# Altium footprint library Main Board.PcbLib: 31 footprints (part 1 of 2)
Each footprint in its own frame and in the unit in brackets; x right, y up, seen from the top. Pads: shape width x height; smd on the part's side, far side on the other; paste and mask are expansions set on the pad; w line width, h text height; cw(c..) or ccw(c..) is an arc to the next point about the centre after c.
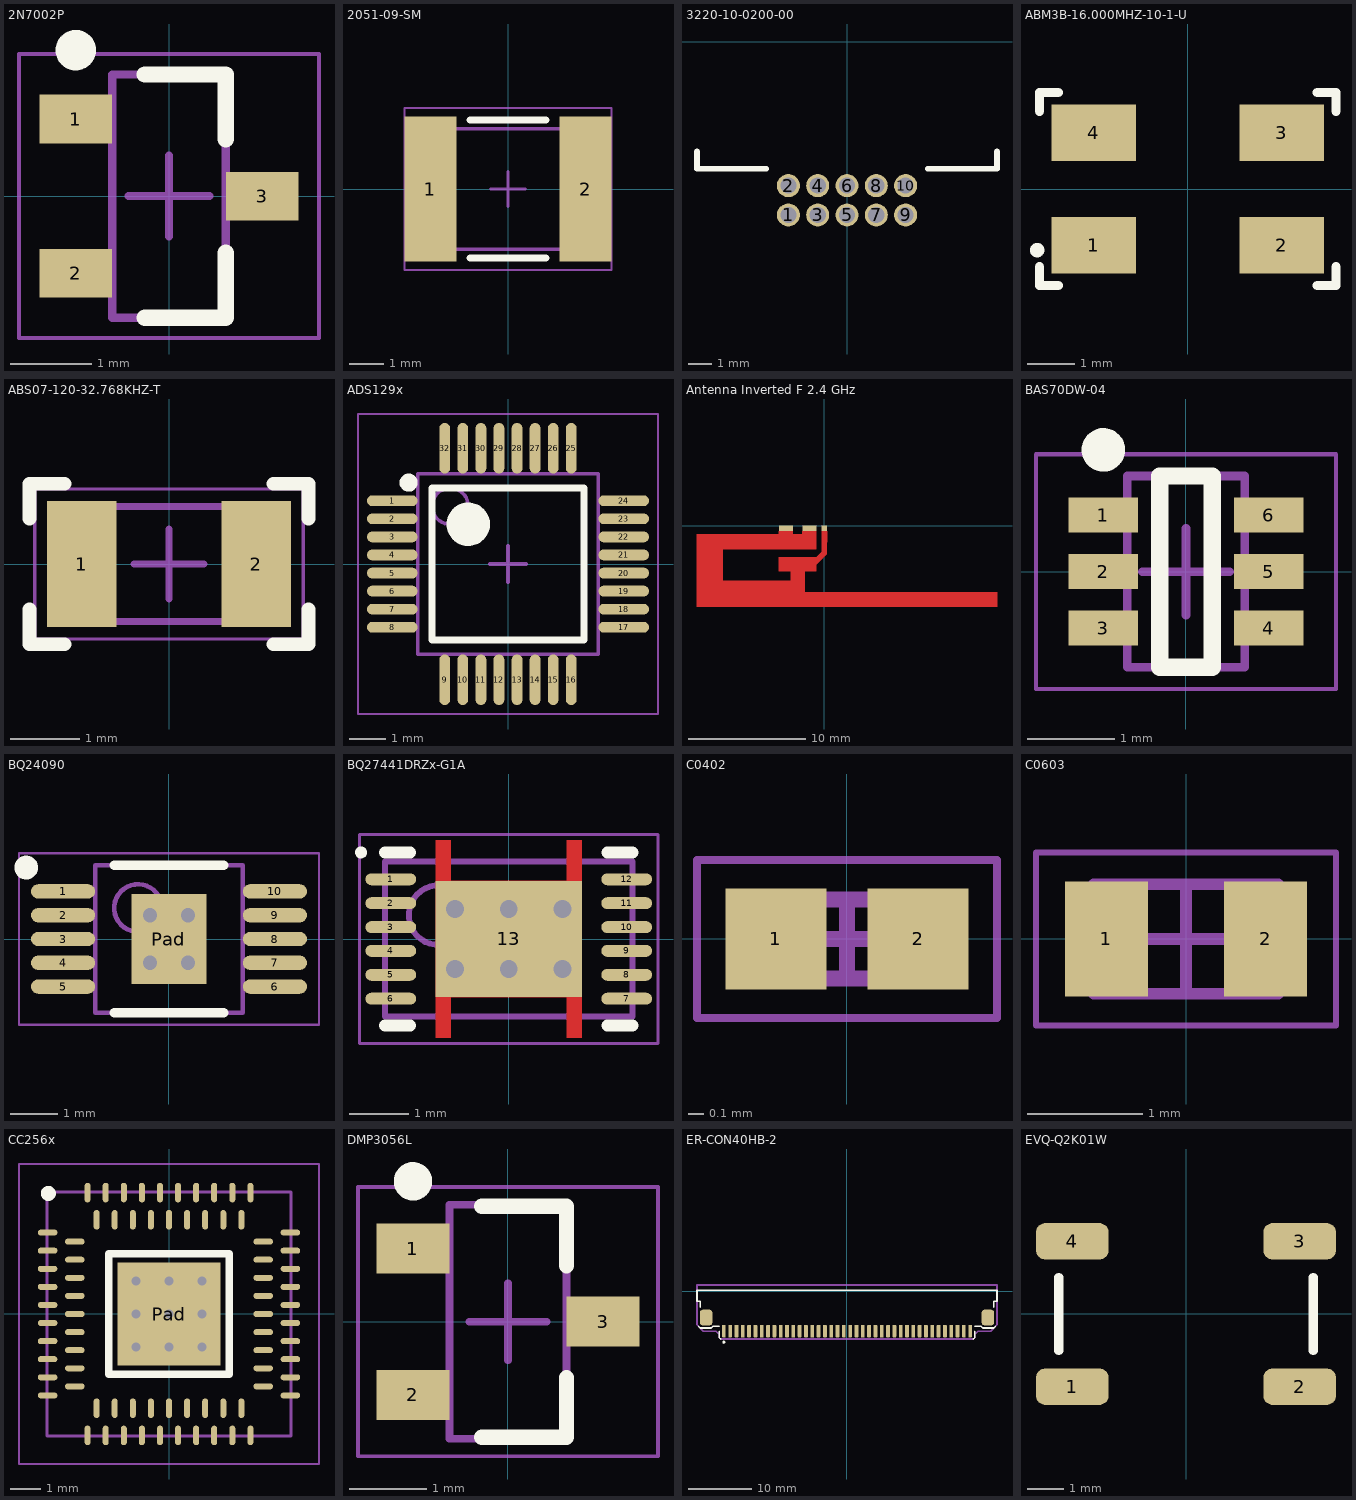
[diagram p0: the footprints below, top view; thin cyan lines are the x and y axes]

## 2N7002P [mm]
pads (3):
  rect 0.9x0.6 smd: 1(-1.15,0.95) 2(-1.15,-0.95) 3(1.15,0)
Top Overlay:
  circle w0.25: c-1.15,1.8 r0.125
  lines w0.2: -0.3,-1.5 0.7,-1.5 0.7,-0.7 ; -0.3,1.5 0.7,1.5 0.7,0.7
Mechanical 13:
  lines w0.1: -0.7,-1.5 -0.7,1.5 0.7,1.5 0.7,-1.5 -0.7,-1.5
Mechanical 15:
  lines w0.05: -1.85,-1.75 -1.85,1.75 1.85,1.75 1.85,-1.75 -1.85,-1.75
  lines w0.1: -0.5,0 0.5,0 ; 0,-0.5 0,0.5
3D body: height 1.1, standoff 0.1, extent -0.7,-1.5 0.7,1.5

## 2051-09-SM [mm]
pads (2):
  rect 1.5x4.2 smd: 1(-2.25,0) 2(2.25,0)
Top Overlay:
  lines w0.2: -1.1,-2 1.1,-2 ; -1.1,2 1.1,2
Mechanical 13:
  lines w0.1: -2.4,-1.75 2.4,-1.75 2.4,1.75 -2.4,1.75 -2.4,-1.75
Mechanical 15:
  lines w0.05: -3,-2.35 3,-2.35 3,2.35 -3,2.35 -3,-2.35
  lines w0.1: -0.5,0 0.5,0 ; 0,-0.5 0,0.5
3D body: height 3, standoff 0, extent 1.9,-1.75 2.4,1.75
3D body: height 3, standoff 0, extent -2.4,-1.75 -1.9,1.75
3D body: height 3, standoff 0, extent -1.9,-1.75 1.9,1.75

## 3220-10-0200-00 [mm]
pads (10):
  round 1 hole 0.7 mask+0.05: 1(-2.54,-7.5) 2(-2.54,-6.23) 3(-1.27,-7.5) 4(-1.27,-6.23) 5(0,-7.5) 6(0,-6.23) 7(1.27,-7.5) 8(1.27,-6.23) 9(2.54,-7.5) 10(2.54,-6.23)
Top Overlay:
  lines w0.25: -6.5,-4.75 -6.5,-5.5 -3.5,-5.5 ; 3.5,-5.5 6.5,-5.5 6.5,-4.75
3D body: height 4.4, standoff 0.7, extent -6.35,-5.4 6.35,0
3D body: height 0.7, standoff 0, extent -6.35,-5.4 6.35,0
3D body: height 3.4, standoff -2.1, extent -2.74,-7.7 -2.34,-7.3
3D body: height 3.4, standoff -2.1, extent -1.47,-7.7 -1.07,-7.3
3D body: height 2.1, standoff -2.1, extent -2.74,-6.43 -2.34,-6.03
3D body: height 2.1, standoff -2.1, extent -1.47,-6.43 -1.07,-6.03
3D body: height 2.1, standoff -2.1, extent -0.2,-6.43 0.2,-6.03
3D body: height 3.4, standoff -2.1, extent -0.2,-7.7 0.2,-7.3
3D body: height 3.4, standoff -2.1, extent 1.07,-7.7 1.47,-7.3
3D body: height 2.1, standoff -2.1, extent 1.07,-6.43 1.47,-6.03
3D body: height 2.1, standoff -2.1, extent 2.34,-6.43 2.74,-6.03
3D body: height 3.4, standoff -2.1, extent 2.34,-7.7 2.74,-7.3
3D body: height 5.1, standoff 4.4, extent -6.35,-5.4 6.35,0
3D body: height 3.4, standoff 3, extent -2.74,-7.3 -2.34,-0.7
3D body: height 3.4, standoff 3, extent -1.47,-7.3 -1.07,-0.7
3D body: height 3.4, standoff 3, extent -0.2,-7.3 0.2,-0.7
3D body: height 3.4, standoff 3, extent 1.07,-7.3 1.47,-0.7
3D body: height 3.4, standoff 3, extent 2.34,-7.3 2.74,-0.7
3D body: height 2.1, standoff 1.7, extent 2.34,-6.03 2.74,-0.7
3D body: height 2.1, standoff 1.7, extent 1.07,-6.03 1.47,-0.7
3D body: height 2.1, standoff 1.7, extent -0.2,-6.03 0.2,-0.7
3D body: height 2.1, standoff 1.7, extent -1.47,-6.03 -1.07,-0.7
3D body: height 2.1, standoff 1.7, extent -2.74,-6.03 -2.34,-0.7

## ABM3B-16.000MHZ-10-1-U [mm]
pads (4):
  rect 1.8x1.2 smd: 1(-2,-1.2) 2(2,-1.2) 3(2,1.2) 4(-2,1.2)
Top Overlay:
  circle w0.254: c-3.2,-1.3 r0.025
  lines w0.2: -3.15,-1.65 -3.15,-2.05 -2.75,-2.05 ; -3.15,1.65 -3.15,2.05 -2.75,2.05 ; 2.75,-2.05 3.15,-2.05 3.15,-1.65 ; 2.75,2.05 3.15,2.05 3.15,1.65
3D body: height 1.1, standoff 0.8, extent -2.4,-1.5 2.4,1.5
3D body: height 0.8, standoff 0, extent -2.5,-1.6 2.5,1.6

## ABS07-120-32.768KHZ-T [mm]
pads (2):
  rect 1x1.8 smd: 1(-1.25,0) 2(1.25,0)
Top Overlay:
  lines w0.2: -2,-0.65 -2,-1.15 -1.5,-1.15 ; -2,0.65 -2,1.15 -1.5,1.15 ; 1.5,-1.15 2,-1.15 2,-0.65 ; 1.5,1.15 2,1.15 2,0.65
Mechanical 13:
  lines w0.1: -1.675,-0.825 1.675,-0.825 1.675,0.825 -1.675,0.825 -1.675,-0.825
Mechanical 15:
  lines w0.05: -1.925,-1.075 1.925,-1.075 1.925,1.075 -1.925,1.075 -1.925,-1.075
  lines w0.1: -0.5,0 0.5,0 ; 0,-0.5 0,0.5
3D body: height 0.9, standoff 0, extent -1.675,-0.825 1.675,0.825

## ADS129x [mm]
pads (32):
  oval 1.4x0.3 smd mask+0.05: 1(-3.2,1.75) 2(-3.2,1.25) 3(-3.2,0.75) 4(-3.2,0.25) 5(-3.2,-0.25) 6(-3.2,-0.75) 7(-3.2,-1.25) 8(-3.2,-1.75) 17(3.2,-1.75) 18(3.2,-1.25) 19(3.2,-0.75) 20(3.2,-0.25) 21(3.2,0.25) 22(3.2,0.75) 23(3.2,1.25) 24(3.2,1.75)
  oval 0.3x1.4 smd mask+0.05: 9(-1.75,-3.2) 10(-1.25,-3.2) 11(-0.75,-3.2) 12(-0.25,-3.2) 13(0.25,-3.2) 14(0.75,-3.2) 15(1.25,-3.2) 16(1.75,-3.2) 25(1.75,3.2) 26(1.25,3.2) 27(0.75,3.2) 28(0.25,3.2) 29(-0.25,3.2) 30(-0.75,3.2) 31(-1.25,3.2) 32(-1.75,3.2)
Top Overlay:
  circle w0.6: c-1.1,1.1 r0.3
  circle w0.25: c-2.75,2.25 r0.125
  lines w0.2: -2.1,-2.1 2.1,-2.1 2.1,2.1 -2.1,2.1 -2.1,-2.1
Mechanical 13:
  circle w0.1: c-1.6,1.6 r0.5
  lines w0.1: -2.5,-2.5 2.5,-2.5 2.5,2.5 -2.5,2.5 -2.5,-2.5
Mechanical 15:
  lines w0.05: -4.15,-4.15 4.15,-4.15 4.15,4.15 -4.15,4.15 -4.15,-4.15
  lines w0.1: -0.5,0 0.5,0 ; 0,-0.5 0,0.5
3D body: height 1.2, standoff 0.05, extent -2.5,-2.5 2.5,2.5

## Antenna Inverted F 2.4 GHz [mm]
pads (3):
  rect 0.46x0.46 smd paste-1.2: 1(0,-0.23)
  rect 1.2x0.46 smd paste-1.2: 2(-3.28,-0.23) 2(-1.28,-0.23)
Top Layer:
  region: -0.68,-0.46 -0.68,-2.03 -8.68,-2.03 -8.68,-4.7 -2.88,-4.7 -2.88,-3.9 -3.88,-3.9 -3.88,-2.69 -0.68,-2.69 -0.23,-2.24 -0.23,-0.46 0.229,-0.46 0.225,-2.435 -0.68,-3.34 -0.68,-3.9 -1.68,-3.9 -1.68,-5.7 14.72,-5.7 14.72,-6.91 -10.86,-6.91 -10.86,-0.74 -3.88,-0.74 -3.88,-0.46 -2.68,-0.46 -2.68,-0.74 -1.88,-0.74 -1.88,-0.46

## BAS70DW-04 [mm]
pads (6):
  rect 0.8x0.4 smd mask+0.05: 1(-0.95,0.65) 2(-0.95,0) 3(-0.95,-0.65) 4(0.95,-0.65) 5(0.95,0) 6(0.95,0.65)
Top Overlay:
  circle w0.25: c-0.95,1.4 r0.125
  lines w0.2: -0.3,-1.1 -0.3,1.1 0.3,1.1 0.3,-1.1 -0.3,-1.1
Mechanical 13:
  lines w0.1: -0.675,-1.1 -0.675,1.1 0.675,1.1 0.675,-1.1 -0.675,-1.1
Mechanical 15:
  lines w0.05: -1.725,-1.35 -1.725,1.35 1.725,1.35 1.725,-1.35 -1.725,-1.35
  lines w0.1: -0.5,0 0.5,0 ; 0,-0.5 0,0.5
3D body: height 1.1, standoff 0.1, extent -0.675,-1.1 0.675,1.1

## BQ24090 [mm]
pads (11):
  oval 1.35x0.3 smd mask+0.05: 1(-2.225,1) 2(-2.225,0.5) 3(-2.225,0) 4(-2.225,-0.5) 5(-2.225,-1) 6(2.225,-1) 7(2.225,-0.5) 8(2.225,0) 9(2.225,0.5) 10(2.225,1)
  rect 1.57x1.88 smd mask+0.05: Pad(0,0)
via 0.4,-0.5 diameter 0.6 hole 0.3
via -0.4,-0.5 diameter 0.6 hole 0.3
via -0.4,0.5 diameter 0.6 hole 0.3
via 0.4,0.5 diameter 0.6 hole 0.3
Top Overlay:
  circle w0.25: c-3,1.5 r0.125
  lines w0.2: -1.15,-1.55 1.15,-1.55 ; -1.15,1.55 1.15,1.55
Mechanical 13:
  circle w0.1: c-0.65,0.65 r0.5
  lines w0.1: -1.55,-1.55 1.55,-1.55 1.55,1.55 -1.55,1.55 -1.55,-1.55
Mechanical 15:
  lines w0.05: -3.15,-1.8 3.15,-1.8 3.15,1.8 -3.15,1.8 -3.15,-1.8
  lines w0.1: -0.5,0 0.5,0 ; 0,-0.5 0,0.5
3D body: height 1.1, standoff 0.05, extent -1.55,-1.55 1.55,1.55

## BQ27441DRZx-G1A [mm]
pads (13):
  oval 0.85x0.2 smd paste-0.1 mask+0.05: 1(-1.975,1) 2(-1.975,0.6) 3(-1.975,0.2) 4(-1.975,-0.2) 5(-1.975,-0.6) 6(-1.975,-1) 7(1.975,-1) 8(1.975,-0.6) 9(1.975,-0.2) 10(1.975,0.2) 11(1.975,0.6) 12(1.975,1)
  rect 2.45x1.95 smd paste-0.975 mask+0.05: 13(0,0)
via 0.9,-0.5 diameter 0.5 hole 0.3
via 0.9,0.5 diameter 0.5 hole 0.3
via -0.9,0.5 diameter 0.5 hole 0.3
via 0,0.5 diameter 0.5 hole 0.3
via -0.9,-0.5 diameter 0.5 hole 0.3
via 0,-0.5 diameter 0.5 hole 0.3
Top Layer:
  region: -1.225,-1.65 -1.225,1.65 -0.975,1.65 -0.975,0.975 0.975,0.975 0.975,1.65 1.225,1.65 1.225,-1.65 0.975,-1.65 0.975,-0.975 -0.975,-0.975 -0.975,-1.65
Top Overlay:
  circle w0.1: c-2.475,1.45 r0.05
  lines w0.2: -2.075,-1.45 -1.65,-1.45 ; -2.075,1.45 -1.65,1.45 ; 1.65,-1.45 2.075,-1.45 ; 1.65,1.45 2.075,1.45
Top Paste:
  rectangle: -1.1,0.1 -0.1,0.9
  region: 1.1,0.9 0.1,0.9 0.1,0.1 1.1,0.1
  region: 1.1,-0.1 0.1,-0.1 0.1,-0.9 1.1,-0.9
  rectangle: -1.1,-0.9 -0.1,-0.1
  rectangle: -1.225,1.1 -0.975,1.625
  rectangle: -1.225,-1.625 -0.975,-1.1
  region: 1.225,-1.1 0.975,-1.1 0.975,-1.625 1.225,-1.625
  region: 1.225,1.625 0.975,1.625 0.975,1.1 1.225,1.1
  lines w0.2: -2.275,-1 -1.675,-1 ; -2.275,-0.6 -1.675,-0.6 ; -2.275,-0.2 -1.675,-0.2 ; -2.275,0.2 -1.675,0.2 ; -2.275,0.6 -1.675,0.6 ; -2.275,1 -1.675,1 ; 1.675,-1 2.275,-1 ; 1.675,-0.6 2.275,-0.6 ; 1.675,-0.2 2.275,-0.2 ; 1.675,0.2 2.275,0.2 ; 1.675,0.6 2.275,0.6 ; 1.675,1 2.275,1
Mechanical 13:
  circle w0.1: c-1.175,0.4 r0.5
  lines w0.1: -2.075,-1.3 -2.075,1.3 2.075,1.3 2.075,-1.3 -2.075,-1.3
Mechanical 15:
  lines w0.05: -2.5,-1.75 -2.5,1.75 2.5,1.75 2.5,-1.75 -2.5,-1.75
  lines w0.1: -0.5,0 0.5,0 ; 0,-0.5 0,0.5
3D body: height 1, standoff -0.05, extent -2.075,-1.3 2.075,1.3

## C0402 [mm]
pads (2):
  rect 0.64x0.64 smd mask+0.05: 1(-0.45,0) 2(0.45,0)
Mechanical 13:
  lines w0.1: -0.5,-0.25 0.5,-0.25 0.5,0.25 -0.5,0.25 -0.5,-0.25
Mechanical 15:
  lines w0.05: -0.95,-0.5 0.95,-0.5 0.95,0.5 -0.95,0.5 -0.95,-0.5
  lines w0.1: -0.25,0 0.25,0 ; 0,-0.25 0,0.25
3D body: height 0.5, standoff 0, extent -0.2,-0.25 0.2,0.25
3D body: height 0.5, standoff 0, extent 0.2,-0.25 0.5,0.25
3D body: height 0.5, standoff 0, extent -0.5,-0.25 -0.2,0.25

## C0603 [mm]
pads (2):
  rect 0.72x1 smd: 1(-0.69,0) 2(0.69,0)
Mechanical 13:
  lines w0.1: -0.8,-0.475 0.8,-0.475 0.8,0.475 -0.8,0.475 -0.8,-0.475
Mechanical 15:
  lines w0.05: -1.3,-0.75 -1.3,0.75 1.3,0.75 1.3,-0.75 -1.3,-0.75
  lines w0.1: -0.475,0 0.475,0 ; 0,-0.475 0,0.475
3D body: height 0.5, standoff 0, extent -0.5,-0.475 0.5,0.475
3D body: height 0.5, standoff 0, extent -0.8,-0.475 -0.5,0.475
3D body: height 0.5, standoff 0, extent 0.5,-0.475 0.8,0.475

## CC256x [mm]
pads (77):
  oval 0.65x0.2 smd mask+0.07: A1(-4.025,2.7) A2(-4.025,2.1) A3(-4.025,1.5) A4(-4.025,0.9) A5(-4.025,0.3) A6(-4.025,-0.3) A7(-4.025,-0.9) A8(-4.025,-1.5) A9(-4.025,-2.1) A10(-4.025,-2.7) A21(4.025,-2.7) A22(4.025,-2.1) A23(4.025,-1.5) A24(4.025,-0.9) A25(4.025,-0.3) A26(4.025,0.3) A27(4.025,0.9) A28(4.025,1.5) A29(4.025,2.1) A30(4.025,2.7) B1(-3.125,2.4) B2(-3.125,1.8) B3(-3.125,1.2) B4(-3.125,0.6) B5(-3.125,0) B6(-3.125,-0.6) B7(-3.125,-1.2) B8(-3.125,-1.8) B9(-3.125,-2.4) B19(3.125,-2.4) B20(3.125,-1.8) B21(3.125,-1.2) B22(3.125,-0.6) B23(3.125,0) B24(3.125,0.6) B25(3.125,1.2) B26(3.125,1.8) B27(3.125,2.4)
  oval 0.2x0.65 smd mask+0.07: A11(-2.7,-4.025) A12(-2.1,-4.025) A13(-1.5,-4.025) A14(-0.9,-4.025) A15(-0.3,-4.025) A16(0.3,-4.025) A17(0.9,-4.025) A18(1.5,-4.025) A19(2.1,-4.025) A20(2.7,-4.025) A31(2.7,4.025) A32(2.1,4.025) A33(1.5,4.025) A34(0.9,4.025) A35(0.3,4.025) A36(-0.3,4.025) A37(-0.9,4.025) A38(-1.5,4.025) A39(-2.1,4.025) A40(-2.7,4.025) B10(-2.4,-3.125) B11(-1.8,-3.125) B12(-1.2,-3.125) B13(-0.6,-3.125) B14(0,-3.125) B15(0.6,-3.125) B16(1.2,-3.125) B17(1.8,-3.125) B18(2.4,-3.125) B28(2.4,3.125) B29(1.8,3.125) B30(1.2,3.125) B31(0.6,3.125) B32(0,3.125) B33(-0.6,3.125) B34(-1.2,3.125) B35(-1.8,3.125) B36(-2.4,3.125)
  rect 3.4x3.4 smd mask+0.07: Pad(0,0)
via -1.1,-1.1 diameter 0.5 hole 0.3
via -1.1,0 diameter 0.5 hole 0.3
via -1.1,1.1 diameter 0.5 hole 0.3
via 0,-1.1 diameter 0.5 hole 0.3
via 1.1,-1.1 diameter 0.5 hole 0.3
via 0,0 diameter 0.5 hole 0.3
via 0,1.1 diameter 0.5 hole 0.3
via 1.1,0 diameter 0.5 hole 0.3
via 1.1,1.1 diameter 0.5 hole 0.3
Top Overlay:
  circle w0.25: c-4,4 r0.125
  lines w0.25: -2,-2 -2,2 2,2 2,-2 -2,-2
Mechanical 13:
  lines w0.1: -4.05,-4.05 -4.05,4.05 4.05,4.05 4.05,-4.05 -4.05,-4.05
Mechanical 15:
  lines w0.05: -4.975,-4.975 -4.975,4.975 4.975,4.975 4.975,-4.975 -4.975,-4.975
  lines w0.1: -0.5,0 0.5,0 ; 0,-0.5 0,0.5
3D body: height 0.9, standoff 0, extent -4.05,-4.05 4.05,4.05

## DMP3056L [mm]
pads (3):
  rect 0.95x0.65 smd: 1(-1.235,0.95) 2(-1.235,-0.95) 3(1.235,0)
Top Overlay:
  circle w0.25: c-1.235,1.825 r0.125
  lines w0.2: -0.34,-1.5 0.76,-1.5 0.76,-0.725 ; -0.34,1.5 0.76,1.5 0.76,0.725
Mechanical 13:
  lines w0.1: -0.76,-1.52 -0.76,1.52 0.76,1.52 0.76,-1.52 -0.76,-1.52
Mechanical 15:
  lines w0.05: -1.95,-1.75 -1.95,1.75 1.95,1.75 1.95,-1.75 -1.95,-1.75
  lines w0.1: -0.5,0 0.5,0 ; 0,-0.5 0,0.5
3D body: height 1.12, standoff 0.1, extent -0.76,-1.52 0.76,1.52

## ER-CON40HB-2 [mm]
pads (42):
  rrect50% 0.6x2 smd: 1(-19.5,-6.3) 2(-18.5,-6.3) 3(-17.5,-6.3) 4(-16.5,-6.3) 5(-15.5,-6.3) 6(-14.5,-6.3) 7(-13.5,-6.3) 8(-12.5,-6.3) 9(-11.5,-6.3) 10(-10.5,-6.3) 11(-9.5,-6.3) 12(-8.5,-6.3) 13(-7.5,-6.3) 14(-6.5,-6.3) 15(-5.5,-6.3) 16(-4.5,-6.3) 17(-3.5,-6.3) 18(-2.5,-6.3) 19(-1.5,-6.3) 20(-0.5,-6.3) 21(0.5,-6.3) 22(1.5,-6.3) 23(2.5,-6.3) 24(3.5,-6.3) 25(4.5,-6.3) 26(5.5,-6.3) 27(6.5,-6.3) 28(7.5,-6.3) 29(8.5,-6.3) 30(9.5,-6.3) 31(10.5,-6.3) 32(11.5,-6.3) 33(12.5,-6.3) 34(13.5,-6.3) 35(14.5,-6.3) 36(15.5,-6.3) 37(16.5,-6.3) 38(17.5,-6.3) 39(18.5,-6.3) 40(19.5,-6.3)
  rrect50% 2x2.5 smd: ""(-22.3,-4.15) ""(22.3,-4.15)
Top Overlay:
  circle w0.25: c-19.5,-8.05 r0.125
  lines w0.25: -23.5,-5.55 -23.25,-5.8 -21.5,-5.8 -21.25,-5.55 -20.25,-5.55 ; -23.25,-2.55 -23.25,-1.55 -23.75,-1.55 -23.75,0.2 23.75,0.2 23.75,-1.55 23.25,-1.55 23.25,-2.55 ; -20.25,-6.3 -20.25,-7.3 -20,-7.55 ; 20,-7.55 20.25,-7.3 20.25,-6.3 ; 20.25,-5.55 21.25,-5.55 21.5,-5.8 23.25,-5.8 23.5,-5.55
Mechanical 15:
  lines w0.25: -23.75,-5.3 -23.75,1 23.75,1 23.75,-5.3 22.75,-6.3 20.75,-6.3 20.25,-6.8 20.25,-7.3 20,-7.55 0,-7.55 -20,-7.55 -20.25,-7.3 -20.25,-6.8 -20.75,-6.3 -22.75,-6.3 -23.75,-5.3
3D body: height 0.75, standoff 0.5, extent 19.35,-5.7 19.65,-5.3
3D body: height 0.75, standoff 0.5, extent 18.35,-5.7 18.65,-5.3
3D body: height 0.75, standoff 0.5, extent 17.35,-5.7 17.65,-5.3
3D body: height 0.75, standoff 0.5, extent 16.35,-5.7 16.65,-5.3
3D body: height 0.75, standoff 0.5, extent 15.35,-5.7 15.65,-5.3
3D body: height 0.75, standoff 0.5, extent 14.35,-5.7 14.65,-5.3
3D body: height 0.75, standoff 0.5, extent 13.35,-5.7 13.65,-5.3
3D body: height 0.75, standoff 0.5, extent 12.35,-5.7 12.65,-5.3
3D body: height 0.75, standoff 0.5, extent 11.35,-5.7 11.65,-5.3
3D body: height 0.75, standoff 0.5, extent 10.35,-5.7 10.65,-5.3
3D body: height 0.75, standoff 0.5, extent 9.35,-5.7 9.65,-5.3
3D body: height 0.75, standoff 0.5, extent 8.35,-5.7 8.65,-5.3
3D body: height 0.75, standoff 0.5, extent 7.35,-5.7 7.65,-5.3
3D body: height 0.75, standoff 0.5, extent 6.35,-5.7 6.65,-5.3
3D body: height 0.75, standoff 0.5, extent 5.35,-5.7 5.65,-5.3
3D body: height 0.75, standoff 0.5, extent 4.35,-5.7 4.65,-5.3
3D body: height 0.75, standoff 0.5, extent 3.35,-5.7 3.65,-5.3
3D body: height 0.75, standoff 0.5, extent 2.35,-5.7 2.65,-5.3
3D body: height 0.75, standoff 0.5, extent 1.35,-5.7 1.65,-5.3
3D body: height 0.75, standoff 0.5, extent 0.35,-5.7 0.65,-5.3
3D body: height 0.75, standoff 0.5, extent -0.65,-5.7 -0.35,-5.3
3D body: height 0.75, standoff 0.5, extent -1.65,-5.7 -1.35,-5.3
3D body: height 0.75, standoff 0.5, extent -2.65,-5.7 -2.35,-5.3
3D body: height 0.75, standoff 0.5, extent -3.65,-5.7 -3.35,-5.3
3D body: height 0.75, standoff 0.5, extent -4.65,-5.7 -4.35,-5.3
3D body: height 0.75, standoff 0.5, extent -5.65,-5.7 -5.35,-5.3
3D body: height 0.75, standoff 0.5, extent -6.65,-5.7 -6.35,-5.3
3D body: height 0.75, standoff 0.5, extent -7.65,-5.7 -7.35,-5.3
3D body: height 0.75, standoff 0.5, extent -8.65,-5.7 -8.35,-5.3
3D body: height 0.75, standoff 0.5, extent -9.65,-5.7 -9.35,-5.3
3D body: height 0.75, standoff 0.5, extent -10.65,-5.7 -10.35,-5.3
3D body: height 0.75, standoff 0.5, extent -11.65,-5.7 -11.35,-5.3
3D body: height 0.75, standoff 0.5, extent -12.65,-5.7 -12.35,-5.3
3D body: height 0.75, standoff 0.5, extent -13.65,-5.7 -13.35,-5.3
3D body: height 0.75, standoff 0.5, extent -14.65,-5.7 -14.35,-5.3
3D body: height 0.75, standoff 0.5, extent -15.65,-5.7 -15.35,-5.3
3D body: height 0.75, standoff 0.5, extent -16.65,-5.7 -16.35,-5.3
3D body: height 0.75, standoff 0.5, extent -17.65,-5.7 -17.35,-5.3
3D body: height 0.75, standoff 0.5, extent -18.65,-5.7 -18.35,-5.3
3D body: height 2.5, standoff 1.25, extent -20.5,-1.3 20.5,0
3D body: height 0.5, standoff 0, extent -20.5,-1.3 20.5,0
3D body: height 0.5, standoff 0, extent 19.35,-6.8 19.65,-5.3
3D body: height 0.5, standoff 0, extent 18.35,-6.8 18.65,-5.3
3D body: height 0.5, standoff 0, extent 17.35,-6.8 17.65,-5.3
3D body: height 0.5, standoff 0, extent 16.35,-6.8 16.65,-5.3
3D body: height 0.5, standoff 0, extent 15.35,-6.8 15.65,-5.3
3D body: height 0.5, standoff 0, extent 14.35,-6.8 14.65,-5.3
3D body: height 0.5, standoff 0, extent 13.35,-6.8 13.65,-5.3
3D body: height 0.5, standoff 0, extent 12.35,-6.8 12.65,-5.3
3D body: height 0.5, standoff 0, extent 11.35,-6.8 11.65,-5.3
3D body: height 0.5, standoff 0, extent 10.35,-6.8 10.65,-5.3
3D body: height 0.5, standoff 0, extent 9.35,-6.8 9.65,-5.3
3D body: height 0.5, standoff 0, extent 8.35,-6.8 8.65,-5.3
3D body: height 0.5, standoff 0, extent 7.35,-6.8 7.65,-5.3
3D body: height 0.5, standoff 0, extent 6.35,-6.8 6.65,-5.3
3D body: height 0.5, standoff 0, extent 5.35,-6.8 5.65,-5.3
3D body: height 0.5, standoff 0, extent 4.35,-6.8 4.65,-5.3
3D body: height 0.5, standoff 0, extent 3.35,-6.8 3.65,-5.3
3D body: height 0.5, standoff 0, extent 2.35,-6.8 2.65,-5.3
3D body: height 0.5, standoff 0, extent 1.35,-6.8 1.65,-5.3
3D body: height 0.5, standoff 0, extent 0.35,-6.8 0.65,-5.3
3D body: height 0.5, standoff 0, extent -0.65,-6.8 -0.35,-5.3
3D body: height 0.5, standoff 0, extent -1.65,-6.8 -1.35,-5.3
3D body: height 0.5, standoff 0, extent -2.65,-6.8 -2.35,-5.3
3D body: height 0.5, standoff 0, extent -3.65,-6.8 -3.35,-5.3
3D body: height 0.5, standoff 0, extent -4.65,-6.8 -4.35,-5.3
3D body: height 0.5, standoff 0, extent -5.65,-6.8 -5.35,-5.3
3D body: height 0.5, standoff 0, extent -6.65,-6.8 -6.35,-5.3
3D body: height 0.5, standoff 0, extent -7.65,-6.8 -7.35,-5.3
3D body: height 0.5, standoff 0, extent -8.65,-6.8 -8.35,-5.3
3D body: height 0.5, standoff 0, extent -9.65,-6.8 -9.35,-5.3
3D body: height 0.5, standoff 0, extent -10.65,-6.8 -10.35,-5.3
3D body: height 0.5, standoff 0, extent -11.65,-6.8 -11.35,-5.3
3D body: height 0.5, standoff 0, extent -12.65,-6.8 -12.35,-5.3
3D body: height 0.5, standoff 0, extent -13.65,-6.8 -13.35,-5.3
3D body: height 0.5, standoff 0, extent -14.65,-6.8 -14.35,-5.3
3D body: height 0.5, standoff 0, extent -15.65,-6.8 -15.35,-5.3
3D body: height 0.5, standoff 0, extent -16.65,-6.8 -16.35,-5.3
3D body: height 0.5, standoff 0, extent -17.65,-6.8 -17.35,-5.3
3D body: height 0.5, standoff 0, extent -18.65,-6.8 -18.35,-5.3
3D body: height 0.5, standoff 0, extent -19.65,-6.8 -19.35,-5.3
3D body: height 2.5, standoff 0, extent -23.5,-1.3 -20.5,0
3D body: height 2.5, standoff 0, extent 20.5,-1.3 23.5,0
3D body: height 0.75, standoff 0.5, extent -19.65,-5.7 -19.35,-5.3
3D body: height 2.5, standoff 0.15, extent -23.005,-5.305 23.005,-1.3
3D body: height 0.15, standoff 0, extent -23.255,-5.055 -21.5,-3.05
3D body: height 0.15, standoff 0, extent 21.5,-5.055 23.255,-3.05

## EVQ-Q2K01W [mm]
pads (4):
  rrect50% 2x1 smd: 1(-3.125,-2) 2(3.125,-2) 3(3.125,2) 4(-3.125,2)
Top Overlay:
  lines w0.25: -3.5,-1 -3.5,1 ; 3.5,-1 3.5,1
3D body: height 0.2, standoff 0, extent -3.5,1.75 -2.75,2.25
3D body: height 0.2, standoff 0, extent 2.75,1.75 3.5,2.25
3D body: height 0.2, standoff 0, extent 2.75,-2.25 3.5,-1.75
3D body: height 0.2, standoff 0, extent -3.5,-2.25 -2.75,-1.75
3D body: height 1.8, standoff 0.2, extent -3.25,-3 3.25,3
3D body: height 2, standoff 1.8, extent -1.498,-1.5 1.5,1.5